# EAGLE library part DCDC_VICOR_VIJXX_NOGND (library wheat)
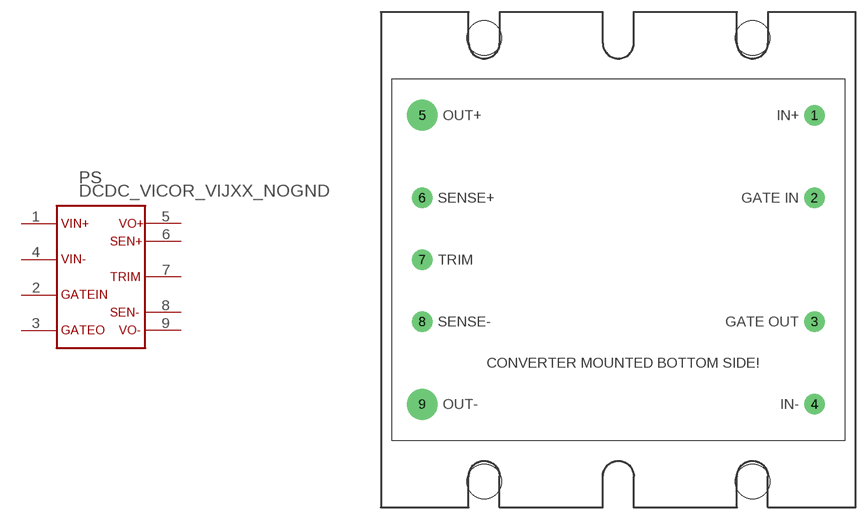
[diagram p255: symbol with the pads of DCDC_VIJXX_BS2; footprint DCDC_VIJXX_BS2]

Designator prefix PS

## DCDC_VICOR_VIJXX_NOGND  [DCDC_VIJXX_BS2]
1  VIN+  pas
2  GATEIN  pas
3  GATEO  pas
4  VIN-  pas
5  OUT+  pas
6  SEN+  pas
7  TRIM  pas
8  SEN-  pas
9  OUT-  pas

## Footprint DCDC_VIJXX_BS2 (pad centres in mm)
drill 1.422 pad 2.54: 1 24.13,17.78; 2 24.13,7.62; 3 24.13,-7.62; 4 24.13,-17.78; 6 -24.13,7.62; 7 -24.13,0; 8 -24.13,-7.62
drill 2.54 pad 3.81: 5 -24.13,17.78; 9 -24.13,-17.78
hole 4.267 at -16.51,27.305
hole 4.267 at 16.51,27.305
hole 4.267 at 16.51,-27.305
hole 4.267 at -16.51,-27.305